# Altium footprint library OSTB1204C1E.PcbLib: 1 footprints
Each footprint in its own frame and in the unit in brackets; x right, y up, seen from the top. Pads: shape width x height; smd on the part's side, far side on the other; paste and mask are expansions set on the pad; w line width, h text height; cw(c..) or ccw(c..) is an arc to the next point about the centre after c.
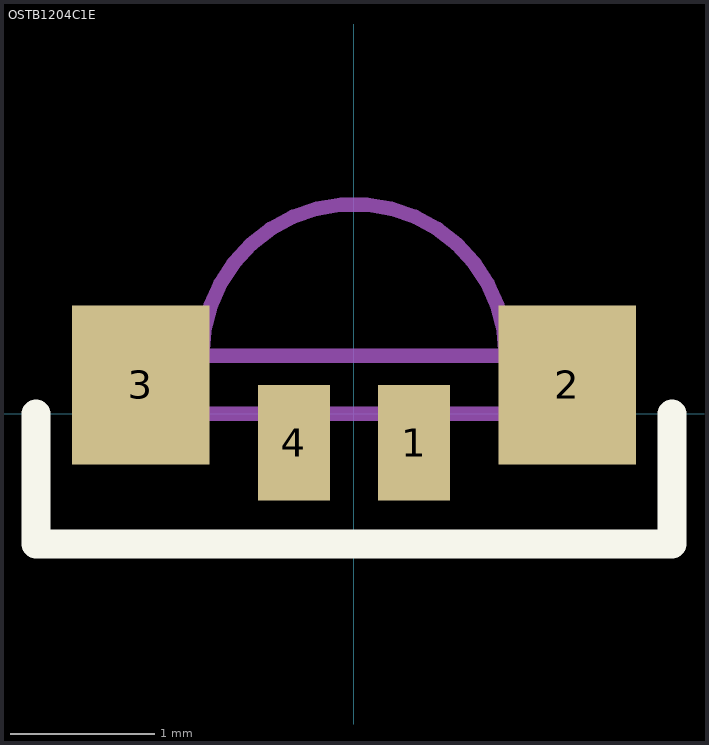
[diagram p0: the footprint, top view; thin cyan lines are the x and y axes]

## OSTB1204C1E [mm]
height 0.55
pads (4):
  rect 0.5x0.8 smd paste+0 mask+0.05: 1(0.415,-0.2) 4(-0.415,-0.2)
  rect 0.95x1.1 smd paste+0 mask+0.05: 2(1.475,0.2) 3(-1.475,0.2)
Top Overlay:
  lines w0.2: -2.2,0 -2.2,-0.9 2.2,-0.9 2.2,0
Top Assembly:
  lines w0.1: -1.05,0.4 cw(c0,0.4) 1.05,0.4 ; -1.6,0 -1.6,0.4 1.6,0.4 1.6,0 -1.6,0
  text "'.Designator'" at -0.96,-0.55 h0.7
3D body "OSTB1204C1E.step": height 1, standoff 0, extent -1.6,0 1.6,1.5